# EAGLE library part MSP432LAUNCHPAD_J5 (library EE445L)
MSP432 LaunchPad with 40 pins on J1-4 and 38 pins on F5
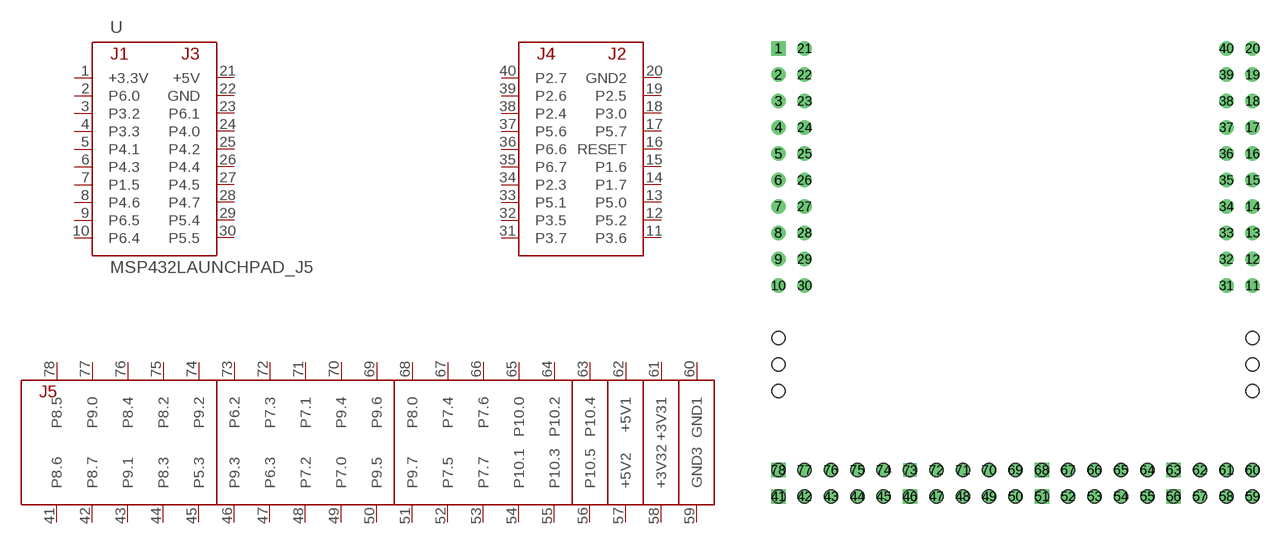
[diagram p43: symbol with the pads of MSP432LAUNCHPAD_J5; footprint MSP432LAUNCHPAD_J5]

Designator prefix -

## MSP432LAUNCHPAD_J5  [MSP432LAUNCHPAD_J5]
1  +3.3V  pwr
2  P6.0
3  P3.2
4  P3.3
5  P4.1
6  P4.3
7  P1.5
8  P4.6
9  P6.5
10  P6.4
11  P3.6
12  P5.2
13  P5.0
14  P1.7
15  P1.6
16  RESET  in
17  P5.7
18  P3.0
19  P2.5
20  GND2  pwr
21  +5V  pwr
22  GND  pwr
23  P6.1
24  P4.0
25  P4.2
26  P4.4
27  P4.5
28  P4.7
29  P5.4
30  P5.5
31  P3.7
32  P3.5
33  P5.1
34  P2.3
35  P6.7
36  P6.6
37  P5.6
38  P2.4
39  P2.6
40  P2.7
41  P8.6
42  P8.7
43  P9.1
44  P8.3
45  P5.3
46  P9.3
47  P6.3
48  P7.2
49  P7.0
50  P9.5
51  P9.7
52  P7.5
53  P7.7
54  P10.1
55  P10.3
56  P10.5
57  +5V2  pwr
58  +3V32  pwr
59  GND3  pwr
60  GND1  pwr
61  +3V31  pwr
62  +5V1  pwr
63  P10.4
64  P10.2
65  P10.0
66  P7.6
67  P7.4
68  P8.0
69  P9.6
70  P9.4
71  P7.1
72  P7.3
73  P6.2
74  P9.2
75  P8.2
76  P8.4
77  P9.0
78  P8.5

## Footprint MSP432LAUNCHPAD_J5 (pad centres in mm)
Two Dual In Line Samtec ESW-110-37-L-D or FCI 67997-210HLF, Digikey 609-3236-ND For J5 16-pin Samtec SSW-116-03-G-D left aligned (leave right power pins unconnected)
drill 0.889 square: 1 -22.86,12.7; 41 -22.86,-30.48; 46 -10.16,-30.48; 51 2.54,-30.48; 56 15.24,-30.48; 63 15.24,-27.94; 68 2.54,-27.94; 78 -22.86,-27.94
drill 0.889: 2 -22.86,10.16; 3 -22.86,7.62; 4 -22.86,5.08; 5 -22.86,2.54; 6 -22.86,0; 7 -22.86,-2.54; 8 -22.86,-5.08; 9 -22.86,-7.62; 10 -22.86,-10.16; 11 22.86,-10.16; 12 22.86,-7.62; 13 22.86,-5.08; 14 22.86,-2.54; 15 22.86,0; 16 22.86,2.54; 17 22.86,5.08; 18 22.86,7.62; 19 22.86,10.16; 20 22.86,12.7; 21 -20.32,12.7; 22 -20.32,10.16; 23 -20.32,7.62; 24 -20.32,5.08; 25 -20.32,2.54; 26 -20.32,0; 27 -20.32,-2.54; 28 -20.32,-5.08; 29 -20.32,-7.62; 30 -20.32,-10.16; 31 20.32,-10.16; 32 20.32,-7.62; 33 20.32,-5.08; 34 20.32,-2.54; 35 20.32,0; 36 20.32,2.54; 37 20.32,5.08; 38 20.32,7.62; 39 20.32,10.16; 40 20.32,12.7; 42 -20.32,-30.48; 43 -17.78,-30.48; 44 -15.24,-30.48; 45 -12.7,-30.48; 47 -7.62,-30.48; 48 -5.08,-30.48; 49 -2.54,-30.48; 50 0,-30.48; 52 5.08,-30.48; 53 7.62,-30.48; 54 10.16,-30.48; 55 12.7,-30.48; 57 17.78,-30.48; 58 20.32,-30.48; 59 22.86,-30.48; 60 22.86,-27.94; 61 20.32,-27.94; 62 17.78,-27.94; 64 12.7,-27.94; 65 10.16,-27.94; 66 7.62,-27.94; 67 5.08,-27.94; 69 0,-27.94; 70 -2.54,-27.94; 71 -5.08,-27.94; 72 -7.62,-27.94; 74 -12.7,-27.94; 75 -15.24,-27.94; 76 -17.78,-27.94; 77 -20.32,-27.94
drill 0.813 square: 73 -10.16,-27.94